# Altium footprint library OpticalHardware.PcbLib: 2 footprints
Each footprint in its own frame and in the unit in brackets; x right, y up, seen from the top. Pads: shape width x height; smd on the part's side, far side on the other; paste and mask are expansions set on the pad; w line width, h text height; cw(c..) or ccw(c..) is an arc to the next point about the centre after c.
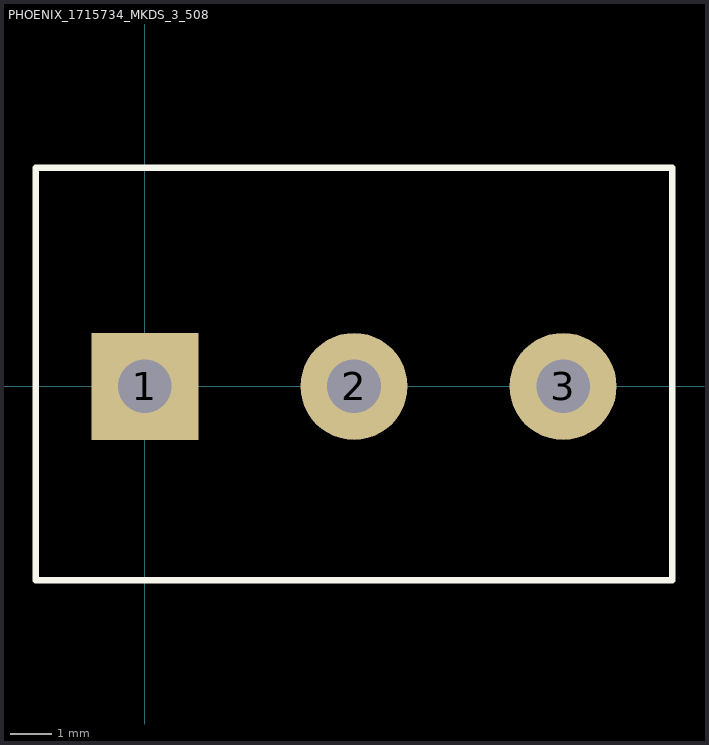
[diagram p0: the footprints below, top view; thin cyan lines are the x and y axes]

## PCBComponent_1 [mm]

## PHOENIX_1715734_MKDS_3_508 [mm] "Phoenix Contact 1715734; KiCad matching MKDS 1.5/3-5.08 STEP and pad layout"
height 12.5
pads (3):
  rect 2.6x2.6 hole 1.3: 1(0,0)
  round 2.6 hole 1.3: 2(5.08,0) 3(10.16,0)
Top Overlay:
  lines w0.15: -2.65,-4.71 -2.65,5.31 12.81,5.31 12.81,-4.71 -2.65,-4.71
3D body "1715734.step": height 13.8, standoff -3.5, extent -3.28,-4.6 12.7,5.2